# Altium integrated library TI Data Converters Analog to Digital Converter.IntLib: 2197 symbols (part 12 of 168)
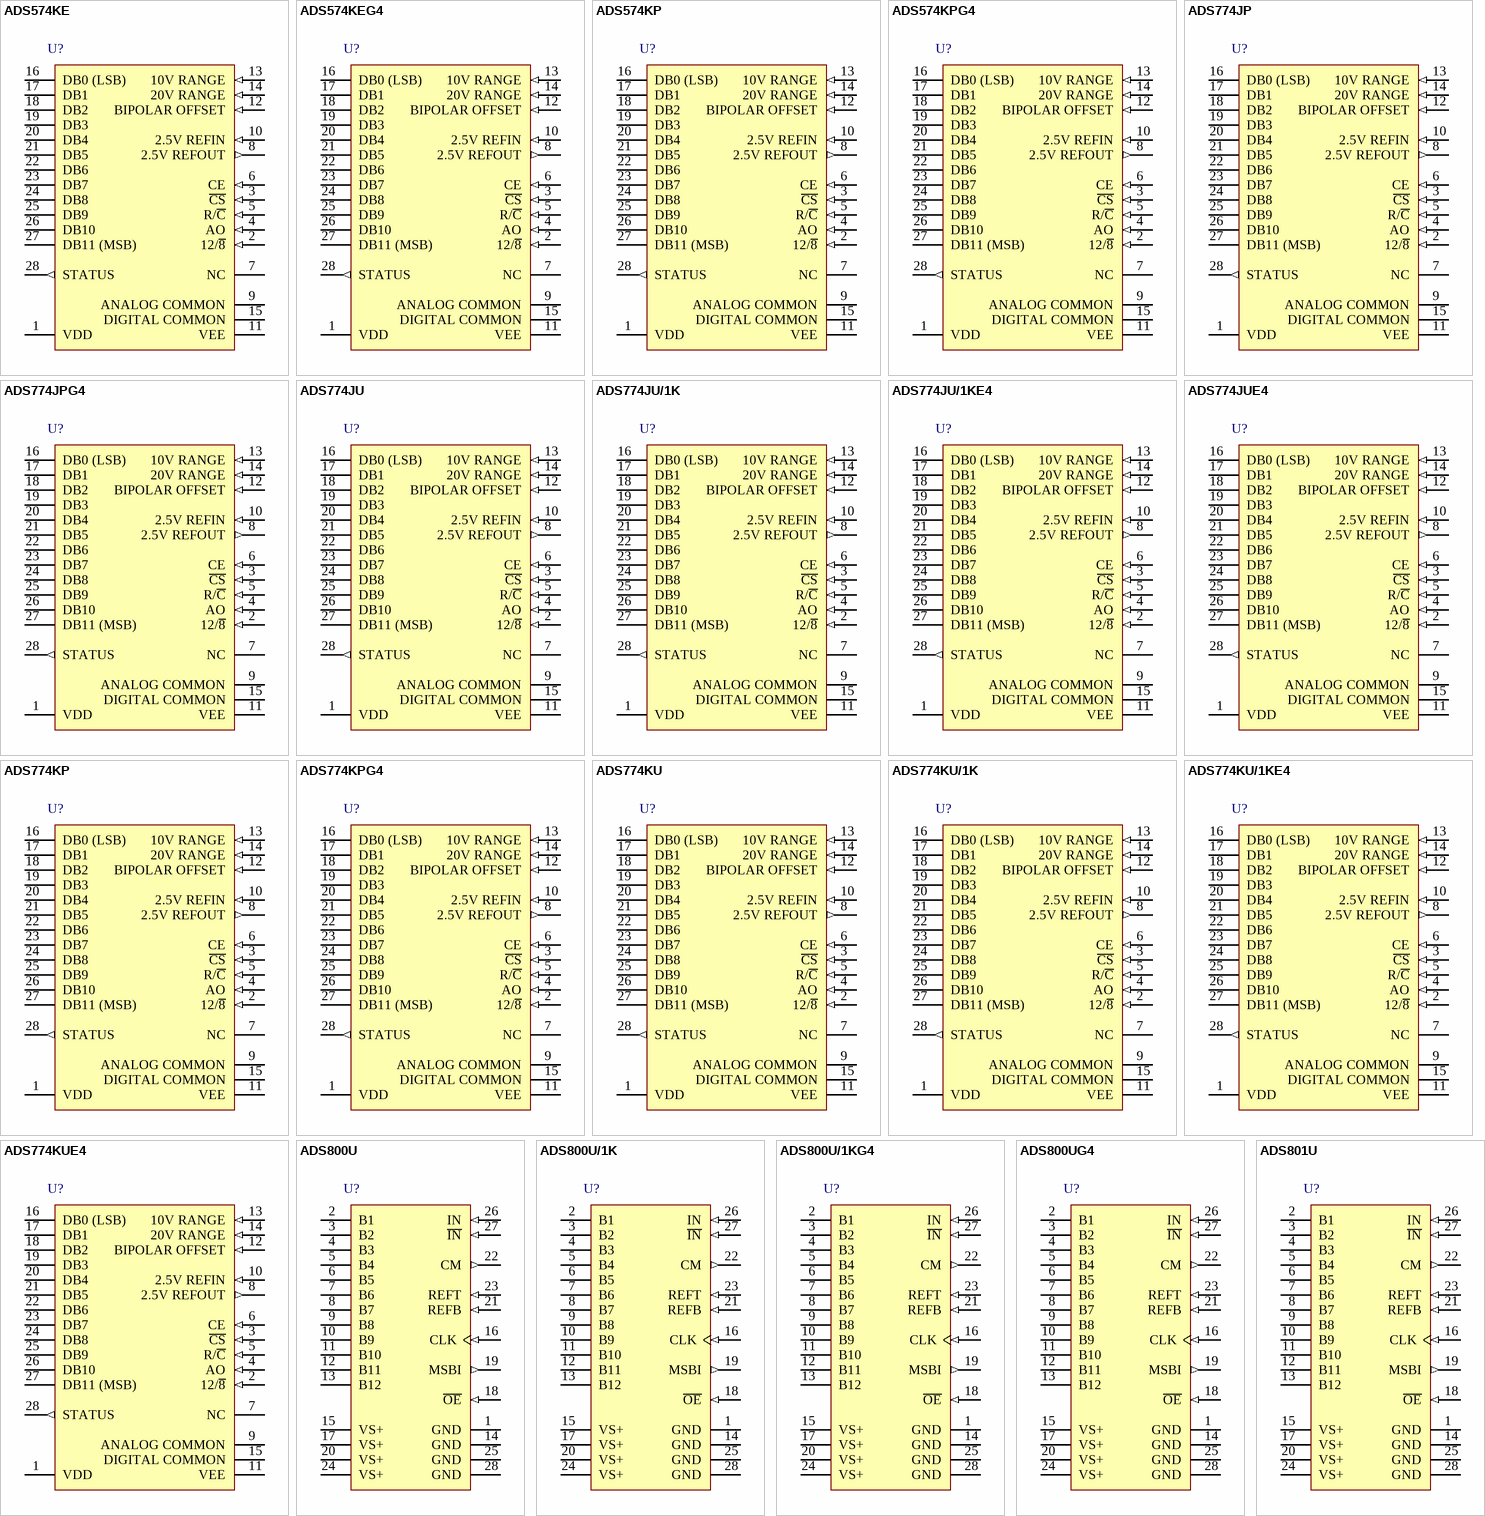
[diagram p137: symbols ADS574KE to ADS801U]

## ADS800U/1KG4
designator U?
12-Bit, 40 MSPS ADC Single-Ended / Differential Input, Internal Reference, -40 to 85 degC, 28-pin SOIC (DW28), Green (RoHS & no Sb/Br); Manufacturer: Texas Instruments; PartNumber: ADS800U/1KG4; # Input Channels: 1; Analog Voltage AV/DD(Max)(V): 5.25; Analog Voltage AV/DD(Min)(V): 4.75; Architecture: Pipeline; ENOB(Bits): 10; Interface: Parallel CMOS; Resolution(Bits): 12; Sample Rate (max)(SPS): 40M; SFDR(dB): 72; SINAD(dB): 63; SNR(dB): 64; SubFamily: High Speed ADC (>10MSPS); DatasheetVersion: SBAS035B; PackageVersion: 4040000-6/G, 01/2011; PackageReference: DW28; PackageDescription: 28-Pin Plastic Small Outline, Body 17.90 x 7.50 mm, Pitch 1.27 mm; Supplier 1: Digi-Key; Supplier Part Number 1: ADS1100A5IDBVTG4-ND; Supplier 2: Mouser; Supplier Part Number 2: 595-ADS1100A5IDBVTG4; Digital Supply(Max)(V): 5.25; Digital Supply(Min)(V): 4.75; Eco-Plan: Green (RoHS & no Sb/Br); Mounting Technology: Surface Mount; Code_JEDEC: MS-013; ComponentLink1Description: Manufacturer URL; ComponentLink1URL: http://www.ti.com/; ComponentLink2Description: Datasheet; ComponentLink2URL: http://www.ti.com/general/docs/lit/getliterature.tsp?genericPartNumber=ADS800&fileType=pdf; ComponentLink3Description: Package Specification; ComponentLink3URL: http://www.ti.com/lit/ml/mpds175a/mpds175a.pdf
footprint TI-DW28_N (SOIC, 28-Leads, Body 17.9x7.5mm, Pitch 1.27mm, IPC Medium Density)
footprint TI-DW28_L (SOIC, 28-Leads, Body 17.9x7.5mm, Pitch 1.27mm, IPC High Density)
footprint TI-DW28_M (SOIC, 28-Leads, Body 17.9x7.5mm, Pitch 1.27mm, IPC Low Density)
pins: 1 GND (power) "Ground", 2 B1 (hiz) "Bit 1, Most Significant Bit", 3 B2 (hiz) "Bit 2", 4 B3 (hiz) "Bit 3", 5 B4 (hiz) "Bit 4", 6 B5 (hiz) "Bit 5", 7 B6 (hiz) "Bit 6", 8 B7 (hiz) "Bit 7", 9 B8 (hiz) "Bit 8", 10 B9 (hiz) "Bit 9", 11 B10 (hiz) "Bit 10", 12 B11 (hiz) "Bit 11", 13 B12 (hiz) "Bit 12, Least Significant Bit", 14 GND (power) "Ground", 15 VS+ (power) "+5V Power Supply", 16 CLK (in) "Convert Clock Input, 50% Duty Cycle", 17 VS+ (power) "+5V Power Supply", 18 ~{OE} (in) "HI: High Impedance State. LO or Floating: Normal Operation. Internal pull-down resistors.", 19 MSBI (out) "Most Significant Bit Inversion, HI: MSB inverted for complementary output. LO or Floating: Straight output. Internal pull-down resistors", 20 VS+ (power) "+5V Power Supply", 21 REFB (in) "Bottom Reference Bypass. For external bypassing of internal +1.25V reference", 22 CM (out) "Common-Mode Voltage. It is derived by (REFT + REFB)/2.", 23 REFT (in) "Top Reference Bypass. For external bypassing of internal +3.25V reference", 24 VS+ (power) "+5V Power Supply", 25 GND (power) "Ground", 26 IN (in) "Input", 27 ~{IN} (in) "Complementary Input", 28 GND (power) "Ground"

## ADS800UG4
designator U?
12-Bit, 40 MSPS ADC Single-Ended / Differential Input, Internal Reference, -40 to 85 degC, 28-pin SOIC (DW28), Green (RoHS & no Sb/Br); Manufacturer: Texas Instruments; PartNumber: ADS800UG4; # Input Channels: 1; Analog Voltage AV/DD(Max)(V): 5.25; Analog Voltage AV/DD(Min)(V): 4.75; Architecture: Pipeline; ENOB(Bits): 10; Interface: Parallel CMOS; Resolution(Bits): 12; Sample Rate (max)(SPS): 40M; SFDR(dB): 72; SINAD(dB): 63; SNR(dB): 64; SubFamily: High Speed ADC (>10MSPS); DatasheetVersion: SBAS035B; PackageVersion: 4040000-6/G, 01/2011; PackageReference: DW28; PackageDescription: 28-Pin Plastic Small Outline, Body 17.90 x 7.50 mm, Pitch 1.27 mm; Supplier 1: Digi-Key; Supplier Part Number 1: ADS1100A6IDBVR-ND; Supplier 2: Mouser; Supplier Part Number 2: 595-ADS1100A6IDBVR; Digital Supply(Max)(V): 5.25; Digital Supply(Min)(V): 4.75; Eco-Plan: Green (RoHS & no Sb/Br); Mounting Technology: Surface Mount; Code_JEDEC: MS-013; ComponentLink1Description: Manufacturer URL; ComponentLink1URL: http://www.ti.com/; ComponentLink2Description: Datasheet; ComponentLink2URL: http://www.ti.com/general/docs/lit/getliterature.tsp?genericPartNumber=ADS800&fileType=pdf; ComponentLink3Description: Package Specification; ComponentLink3URL: http://www.ti.com/lit/ml/mpds175a/mpds175a.pdf
footprint TI-DW28_N (SOIC, 28-Leads, Body 17.9x7.5mm, Pitch 1.27mm, IPC Medium Density)
footprint TI-DW28_L (SOIC, 28-Leads, Body 17.9x7.5mm, Pitch 1.27mm, IPC High Density)
footprint TI-DW28_M (SOIC, 28-Leads, Body 17.9x7.5mm, Pitch 1.27mm, IPC Low Density)
pins: 1 GND (power) "Ground", 2 B1 (hiz) "Bit 1, Most Significant Bit", 3 B2 (hiz) "Bit 2", 4 B3 (hiz) "Bit 3", 5 B4 (hiz) "Bit 4", 6 B5 (hiz) "Bit 5", 7 B6 (hiz) "Bit 6", 8 B7 (hiz) "Bit 7", 9 B8 (hiz) "Bit 8", 10 B9 (hiz) "Bit 9", 11 B10 (hiz) "Bit 10", 12 B11 (hiz) "Bit 11", 13 B12 (hiz) "Bit 12, Least Significant Bit", 14 GND (power) "Ground", 15 VS+ (power) "+5V Power Supply", 16 CLK (in) "Convert Clock Input, 50% Duty Cycle", 17 VS+ (power) "+5V Power Supply", 18 ~{OE} (in) "HI: High Impedance State. LO or Floating: Normal Operation. Internal pull-down resistors.", 19 MSBI (out) "Most Significant Bit Inversion, HI: MSB inverted for complementary output. LO or Floating: Straight output. Internal pull-down resistors", 20 VS+ (power) "+5V Power Supply", 21 REFB (in) "Bottom Reference Bypass. For external bypassing of internal +1.25V reference", 22 CM (out) "Common-Mode Voltage. It is derived by (REFT + REFB)/2.", 23 REFT (in) "Top Reference Bypass. For external bypassing of internal +3.25V reference", 24 VS+ (power) "+5V Power Supply", 25 GND (power) "Ground", 26 IN (in) "Input", 27 ~{IN} (in) "Complementary Input", 28 GND (power) "Ground"

## ADS801U
designator U?
12-Bit, 25 MSPS ADC Single-Ended / Differential Input, Internal Reference, -40 to 85 degC, 28-pin SOIC (DW28), Green (RoHS & no Sb/Br); Manufacturer: Texas Instruments; PartNumber: ADS801U; # Input Channels: 1; Analog Voltage AV/DD(Max)(V): 5.25; Analog Voltage AV/DD(Min)(V): 4.75; Architecture: Pipeline; Interface: Parallel CMOS; Resolution(Bits): 12; Sample Rate (max)(SPS): 25M; SFDR(dB): 77; SINAD(dB): 66; SubFamily: High Speed ADC (>10MSPS); DatasheetVersion: SBAS036B; PackageVersion: 4040000-6/G, 01/2011; PackageReference: DW28; PackageDescription: 28-Pin Plastic Small Outline, Body 17.90 x 7.50 mm, Pitch 1.27 mm; Supplier 1: Digi-Key; Supplier Part Number 1: ADS1100A6IDBVRG4-ND; Supplier 2: Mouser; Supplier Part Number 2: 595-ADS1100A6IDBVRG4; Digital Supply(Max)(V): 5.25; Digital Supply(Min)(V): 4.75; Eco-Plan: Green (RoHS & no Sb/Br); SNR(dB): 66; Mounting Technology: Surface Mount; Code_JEDEC: MS-013; ComponentLink1Description: Manufacturer URL; ComponentLink1URL: http://www.ti.com/; ComponentLink2Description: Datasheet; ComponentLink2URL: http://www.ti.com/general/docs/lit/getliterature.tsp?genericPartNumber=ADS801&fileType=pdf; ComponentLink3Description: Package Specification; ComponentLink3URL: http://www.ti.com/lit/ml/mpds175a/mpds175a.pdf
footprint TI-DW28_N (SOIC, 28-Leads, Body 17.9x7.5mm, Pitch 1.27mm, IPC Medium Density)
footprint TI-DW28_L (SOIC, 28-Leads, Body 17.9x7.5mm, Pitch 1.27mm, IPC High Density)
footprint TI-DW28_M (SOIC, 28-Leads, Body 17.9x7.5mm, Pitch 1.27mm, IPC Low Density)
pins: 1 GND (power) "Ground", 2 B1 (hiz) "Bit 1, Most Significant Bit (MSB)", 3 B2 (hiz) "Bit 2", 4 B3 (hiz) "Bit 3", 5 B4 (hiz) "Bit 4", 6 B5 (hiz) "Bit 5", 7 B6 (hiz) "Bit 6", 8 B7 (hiz) "Bit 7", 9 B8 (hiz) "Bit 8", 10 B9 (hiz) "Bit 9", 11 B10 (hiz) "Bit 10", 12 B11 (hiz) "Bit 11", 13 B12 (hiz) "Bit 12, Least Significant Bit (LSB)", 14 GND (power) "Ground", 15 VS+ (power) "+5V Power Supply", 16 CLK (in) "Convert Clock Input, 50% Duty Cycle", 17 VS+ (power) "+5V Power Supply", 18 ~{OE} (in) "HI: High Impedance State. LO or Floating: Normal Operation. Internal pull-down resistors.", 19 MSBI (out) "Most Significant Bit Inversion, HI: MSB inverted for complementary output. LO or Floating: Straight output. Internal pull-down resistors", 20 VS+ (power) "+5V Power Supply", 21 REFB (in) "Bottom Reference Bypass. For external bypassing of internal +1.25V reference", 22 CM (out) "Common-Mode Voltage. It is derived by (REFT + REFB)/2.", 23 REFT (in) "Top Reference Bypass. For external bypassing of internal +3.25V reference", 24 VS+ (power) "+5V Power Supply", 25 GND (power) "Ground", 26 IN (in) "Input", 27 ~{IN} (in) "Complementary Input", 28 GND (power) "Ground"

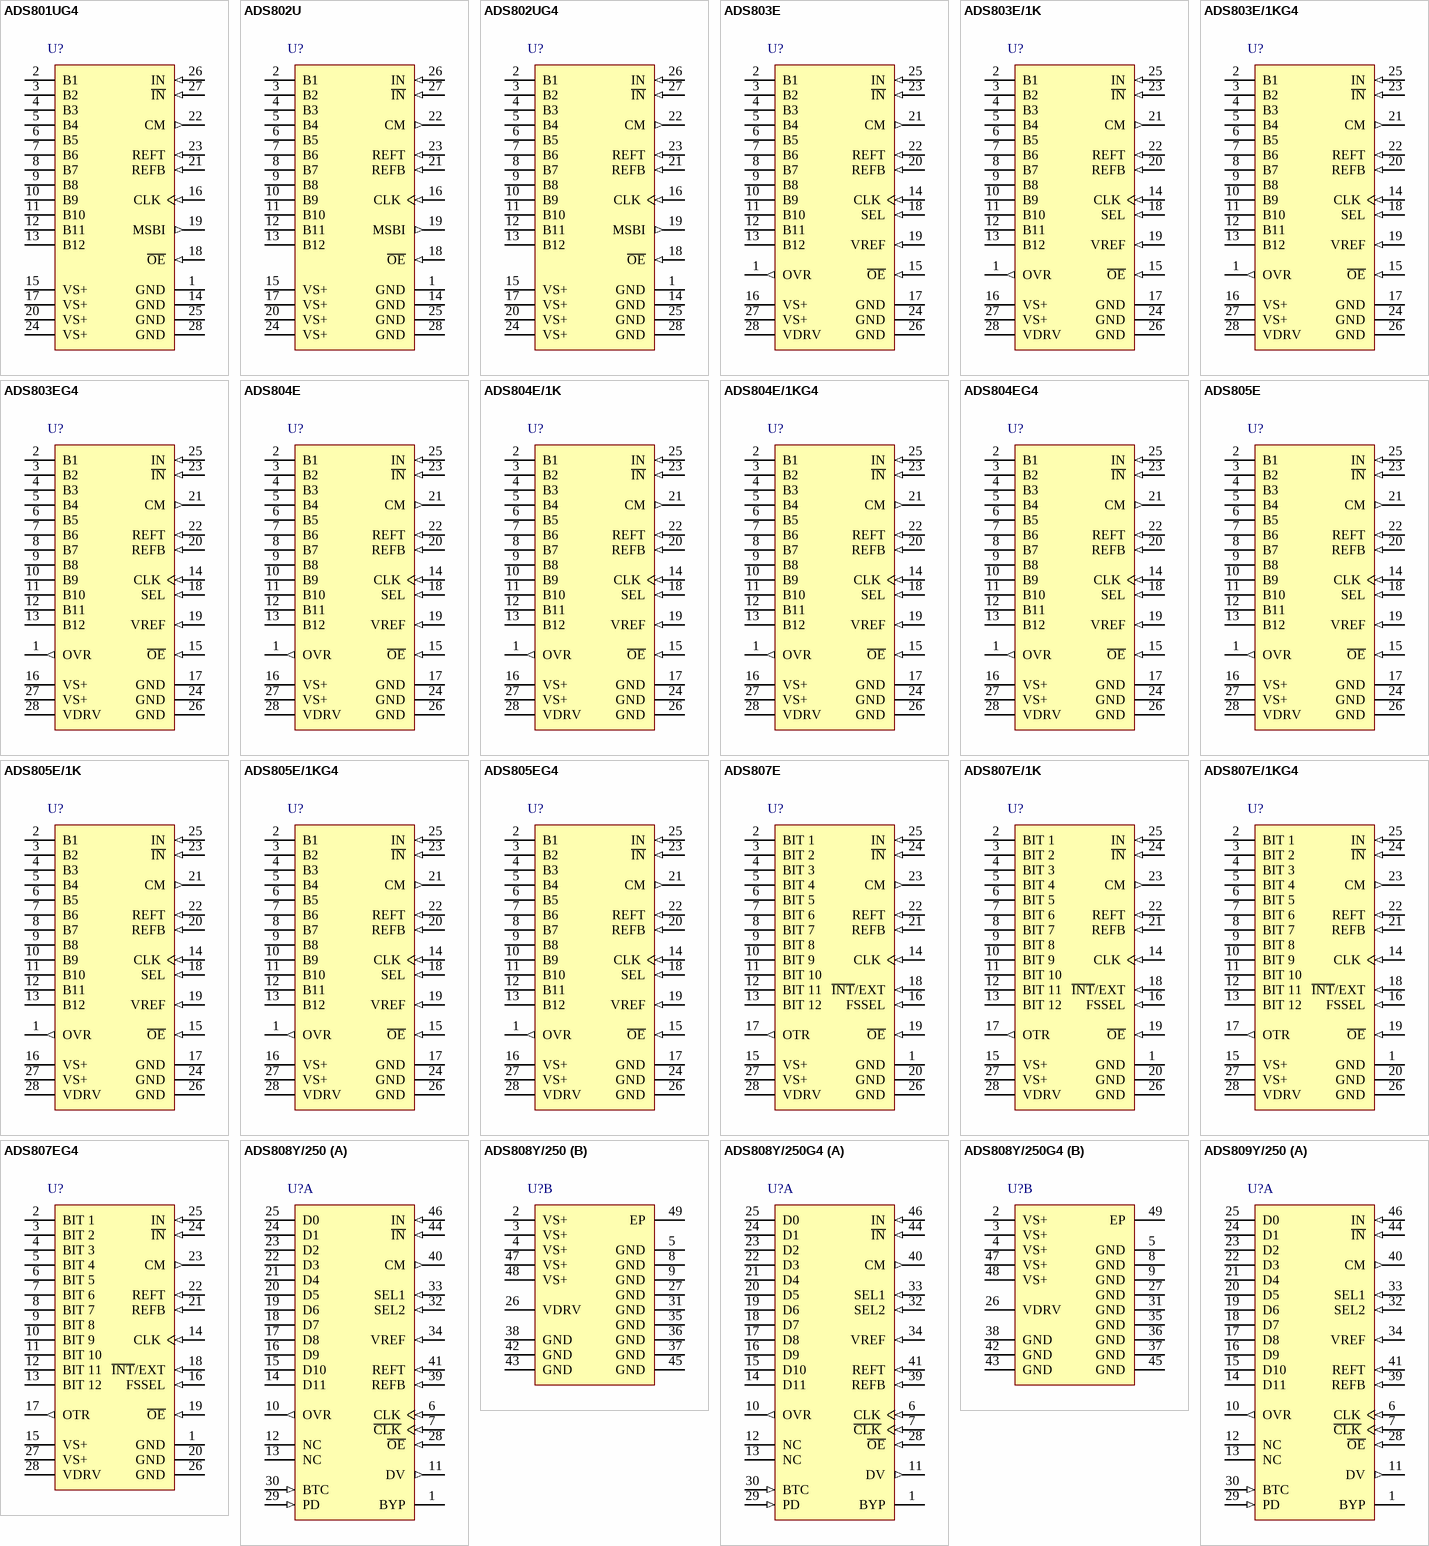
[diagram p8: symbols ADS801UG4 to ADS809Y/250]

## ADS801UG4
designator U?
12-Bit, 25 MSPS ADC Single-Ended / Differential Input, Internal Reference, -40 to 85 degC, 28-pin SOIC (DW28), Green (RoHS & no Sb/Br); Manufacturer: Texas Instruments; PartNumber: ADS801UG4; # Input Channels: 1; Analog Voltage AV/DD(Max)(V): 5.25; Analog Voltage AV/DD(Min)(V): 4.75; Architecture: Pipeline; Interface: Parallel CMOS; Resolution(Bits): 12; Sample Rate (max)(SPS): 25M; SFDR(dB): 77; SINAD(dB): 66; SubFamily: High Speed ADC (>10MSPS); DatasheetVersion: SBAS036B; PackageVersion: 4040000-6/G, 01/2011; PackageReference: DW28; PackageDescription: 28-Pin Plastic Small Outline, Body 17.90 x 7.50 mm, Pitch 1.27 mm; Supplier 1: Digi-Key; Supplier Part Number 1: 296-14303-2-ND; Supplier 2: Digi-Key; Supplier Part Number 2: 296-14303-1-ND; Supplier 3: Digi-Key; Supplier Part Number 3: 296-14303-6-ND; Supplier 4: Newark; Supplier Part Number 4: 20H0720; Supplier 5: Mouser; Supplier Part Number 5: 595-ADS1100A6IDBVT; Digital Supply(Max)(V): 5.25; Digital Supply(Min)(V): 4.75; Eco-Plan: Green (RoHS & no Sb/Br); SNR(dB): 66; Mounting Technology: Surface Mount; Code_JEDEC: MS-013; ComponentLink1Description: Manufacturer URL; ComponentLink1URL: http://www.ti.com/; ComponentLink2Description: Datasheet; ComponentLink2URL: http://www.ti.com/general/docs/lit/getliterature.tsp?genericPartNumber=ADS801&fileType=pdf; ComponentLink3Description: Package Specification; ComponentLink3URL: http://www.ti.com/lit/ml/mpds175a/mpds175a.pdf
footprint TI-DW28_N (SOIC, 28-Leads, Body 17.9x7.5mm, Pitch 1.27mm, IPC Medium Density)
footprint TI-DW28_L (SOIC, 28-Leads, Body 17.9x7.5mm, Pitch 1.27mm, IPC High Density)
footprint TI-DW28_M (SOIC, 28-Leads, Body 17.9x7.5mm, Pitch 1.27mm, IPC Low Density)
pins: 1 GND (power) "Ground", 2 B1 (hiz) "Bit 1, Most Significant Bit (MSB)", 3 B2 (hiz) "Bit 2", 4 B3 (hiz) "Bit 3", 5 B4 (hiz) "Bit 4", 6 B5 (hiz) "Bit 5", 7 B6 (hiz) "Bit 6", 8 B7 (hiz) "Bit 7", 9 B8 (hiz) "Bit 8", 10 B9 (hiz) "Bit 9", 11 B10 (hiz) "Bit 10", 12 B11 (hiz) "Bit 11", 13 B12 (hiz) "Bit 12, Least Significant Bit (LSB)", 14 GND (power) "Ground", 15 VS+ (power) "+5V Power Supply", 16 CLK (in) "Convert Clock Input, 50% Duty Cycle", 17 VS+ (power) "+5V Power Supply", 18 ~{OE} (in) "HI: High Impedance State. LO or Floating: Normal Operation. Internal pull-down resistors.", 19 MSBI (out) "Most Significant Bit Inversion, HI: MSB inverted for complementary output. LO or Floating: Straight output. Internal pull-down resistors", 20 VS+ (power) "+5V Power Supply", 21 REFB (in) "Bottom Reference Bypass. For external bypassing of internal +1.25V reference", 22 CM (out) "Common-Mode Voltage. It is derived by (REFT + REFB)/2.", 23 REFT (in) "Top Reference Bypass. For external bypassing of internal +3.25V reference", 24 VS+ (power) "+5V Power Supply", 25 GND (power) "Ground", 26 IN (in) "Input", 27 ~{IN} (in) "Complementary Input", 28 GND (power) "Ground"

## ADS802U
designator U?
12-Bit, 10 MSPS ADC Single-Ended / Differential Input, Internal Reference, -40 to 85 degC, 28-pin SOIC (DW28), Green (RoHS & no Sb/Br); Manufacturer: Texas Instruments; PartNumber: ADS802U; # Input Channels: 1; Analog Voltage AV/DD(Max)(V): 5.25; Analog Voltage AV/DD(Min)(V): 4.75; Architecture: Pipeline; INL(Max)(+/-LSB): 2.75; Interface: Parallel CMOS; Resolution(Bits): 12; Sample Rate (max)(SPS): 10M; SFDR(dB): 77; SINAD(dB): 66; SNR(dB): 67; SubFamily: Precision ADC (<=10MSPS); DatasheetVersion: SBAS039B; PackageVersion: 4040000-6/G, 01/2011; PackageReference: DW28; PackageDescription: 28-Pin Plastic Small Outline, Body 17.90 x 7.50 mm, Pitch 1.27 mm; Supplier 1: Digi-Key; Supplier Part Number 1: ADS1100A6IDBVTG4-ND; Supplier 2: Mouser; Supplier Part Number 2: 595-ADS1100A6IDBVTG4; Digital Supply(Max)(V): 5.25; Digital Supply(Min)(V): 4.75; Eco-Plan: Green (RoHS & no Sb/Br); Mounting Technology: Surface Mount; Code_JEDEC: MS-013; ComponentLink1Description: Manufacturer URL; ComponentLink1URL: http://www.ti.com/; ComponentLink2Description: Datasheet; ComponentLink2URL: http://www.ti.com/general/docs/lit/getliterature.tsp?genericPartNumber=ADS802&fileType=pdf; ComponentLink3Description: Package Specification; ComponentLink3URL: http://www.ti.com/lit/ml/mpds175a/mpds175a.pdf
footprint TI-DW28_N (SOIC, 28-Leads, Body 17.9x7.5mm, Pitch 1.27mm, IPC Medium Density)
footprint TI-DW28_L (SOIC, 28-Leads, Body 17.9x7.5mm, Pitch 1.27mm, IPC High Density)
footprint TI-DW28_M (SOIC, 28-Leads, Body 17.9x7.5mm, Pitch 1.27mm, IPC Low Density)
pins: 1 GND (power) "Ground", 2 B1 (hiz) "Bit 1, Most Significant Bit", 3 B2 (hiz) "Bit 2", 4 B3 (hiz) "Bit 3", 5 B4 (hiz) "Bit 4", 6 B5 (hiz) "Bit 5", 7 B6 (hiz) "Bit 6", 8 B7 (hiz) "Bit 7", 9 B8 (hiz) "Bit 8", 10 B9 (hiz) "Bit 9", 11 B10 (hiz) "Bit 10", 12 B11 (hiz) "Bit 11", 13 B12 (hiz) "Bit 12, Least Significant Bit", 14 GND (power) "Ground", 15 VS+ (power) "+5V Power Supply", 16 CLK (in) "Convert Clock Input, 50% Duty Cycle", 17 VS+ (power) "+5V Power Supply", 18 ~{OE} (in) "HI: High Impedance State. LO or Floating: Normal Operation. Internal pull-down resistors.", 19 MSBI (out) "Most Significant Bit Inversion, HI: MSB inverted for complementary output. LO or Floating: Straight output. Internal pull-down resistors", 20 VS+ (power) "+5V Power Supply", 21 REFB (in) "Bottom Reference Bypass. For external bypassing of internal +1.25V reference", 22 CM (out) "Common-Mode Voltage. It is derived by (REFT + REFB)/2.", 23 REFT (in) "Top Reference Bypass. For external bypassing of internal +3.25V reference", 24 VS+ (power) "+5V Power Supply", 25 GND (power) "Ground", 26 IN (in) "Input", 27 ~{IN} (in) "Complementary Input", 28 GND (power) "Ground"

## ADS802UG4
designator U?
12-Bit, 10 MSPS ADC Single-Ended / Differential Input, Internal Reference, -40 to 85 degC, 28-pin SOIC (DW28), Green (RoHS & no Sb/Br); Manufacturer: Texas Instruments; PartNumber: ADS802UG4; # Input Channels: 1; Analog Voltage AV/DD(Max)(V): 5.25; Analog Voltage AV/DD(Min)(V): 4.75; Architecture: Pipeline; INL(Max)(+/-LSB): 2.75; Interface: Parallel CMOS; Resolution(Bits): 12; Sample Rate (max)(SPS): 10M; SFDR(dB): 77; SINAD(dB): 66; SNR(dB): 67; SubFamily: Precision ADC (<=10MSPS); DatasheetVersion: SBAS039B; PackageVersion: 4040000-6/G, 01/2011; PackageReference: DW28; PackageDescription: 28-Pin Plastic Small Outline, Body 17.90 x 7.50 mm, Pitch 1.27 mm; Supplier 1: Digi-Key; Supplier Part Number 1: ADS1100A7IDBVR-ND; Supplier 2: Mouser; Supplier Part Number 2: 595-ADS1100A7IDBVR; Digital Supply(Max)(V): 5.25; Digital Supply(Min)(V): 4.75; Eco-Plan: Green (RoHS & no Sb/Br); Mounting Technology: Surface Mount; Code_JEDEC: MS-013; ComponentLink1Description: Manufacturer URL; ComponentLink1URL: http://www.ti.com/; ComponentLink2Description: Datasheet; ComponentLink2URL: http://www.ti.com/general/docs/lit/getliterature.tsp?genericPartNumber=ADS802&fileType=pdf; ComponentLink3Description: Package Specification; ComponentLink3URL: http://www.ti.com/lit/ml/mpds175a/mpds175a.pdf
footprint TI-DW28_N (SOIC, 28-Leads, Body 17.9x7.5mm, Pitch 1.27mm, IPC Medium Density)
footprint TI-DW28_L (SOIC, 28-Leads, Body 17.9x7.5mm, Pitch 1.27mm, IPC High Density)
footprint TI-DW28_M (SOIC, 28-Leads, Body 17.9x7.5mm, Pitch 1.27mm, IPC Low Density)
pins: 1 GND (power) "Ground", 2 B1 (hiz) "Bit 1, Most Significant Bit", 3 B2 (hiz) "Bit 2", 4 B3 (hiz) "Bit 3", 5 B4 (hiz) "Bit 4", 6 B5 (hiz) "Bit 5", 7 B6 (hiz) "Bit 6", 8 B7 (hiz) "Bit 7", 9 B8 (hiz) "Bit 8", 10 B9 (hiz) "Bit 9", 11 B10 (hiz) "Bit 10", 12 B11 (hiz) "Bit 11", 13 B12 (hiz) "Bit 12, Least Significant Bit", 14 GND (power) "Ground", 15 VS+ (power) "+5V Power Supply", 16 CLK (in) "Convert Clock Input, 50% Duty Cycle", 17 VS+ (power) "+5V Power Supply", 18 ~{OE} (in) "HI: High Impedance State. LO or Floating: Normal Operation. Internal pull-down resistors.", 19 MSBI (out) "Most Significant Bit Inversion, HI: MSB inverted for complementary output. LO or Floating: Straight output. Internal pull-down resistors", 20 VS+ (power) "+5V Power Supply", 21 REFB (in) "Bottom Reference Bypass. For external bypassing of internal +1.25V reference", 22 CM (out) "Common-Mode Voltage. It is derived by (REFT + REFB)/2.", 23 REFT (in) "Top Reference Bypass. For external bypassing of internal +3.25V reference", 24 VS+ (power) "+5V Power Supply", 25 GND (power) "Ground", 26 IN (in) "Input", 27 ~{IN} (in) "Complementary Input", 28 GND (power) "Ground"

## ADS803E
designator U?
12-Bit, 5 MSPS ADC Internal / External Reference, Flexible Input between 2 and 5 Vpp, Out of Range Indicator, -40 to 85 degC, 28-pin SOP (DB28), Green (RoHS & no Sb/Br); Manufacturer: Texas Instruments; PartNumber: ADS803E; # Input Channels: 1; Analog Voltage AV/DD(Max)(V): 5.3; Analog Voltage AV/DD(Min)(V): 4.7; Architecture: Pipeline; ENOB(Bits): 11; INL(Max)(+/-LSB): 2; Interface: Parallel CMOS; Resolution(Bits): 12; Sample Rate (max)(SPS): 5M; SFDR(dB): 82; SINAD(dB): 68; SNR(dB): 69; SubFamily: Precision ADC (<=10M); DatasheetVersion: SBAS074B; PackageVersion: 4040065/E, 12/2001; PackageReference: DB28; PackageDescription: 28-Pin Plastic Small Outline, Body 10.2 X 5.3 mm, Pitch 0.65 mm; Supplier 1: Digi-Key; Supplier Part Number 1: ADS1100A7IDBVRG4-ND; Supplier 2: Mouser; Supplier Part Number 2: 595-ADS1100A7IDBVRG4; Digital Supply(Max)(V): 5.3; Digital Supply(Min)(V): 4.7; Eco-Plan: Green (RoHS & no Sb/Br); Mounting Technology: Surface Mount; Code_JEDEC: MO-150; ComponentLink1Description: Manufacturer URL; ComponentLink1URL: http://www.ti.com/; ComponentLink2Description: Datasheet; ComponentLink2URL: http://www.ti.com/general/docs/lit/getliterature.tsp?genericPartNumber=ADS803&fileType=pdf; ComponentLink3Description: Package Specification; ComponentLink3URL: http://www.ti.com/lit/ml/msso002e/msso002e.pdf
footprint TI-DB28_N (SOP, 28-Leads, Body 10.2x5.3mm, Pitch 0.65mm, IPC Medium Density)
footprint TI-DB28_L (SOP, 28-Leads, Body 10.2x5.3mm, Pitch 0.65mm, IPC High Density)
footprint TI-DB28_M (SOP, 28-Leads, Body 10.2x5.3mm, Pitch 0.65mm, IPC Low Density)
pins: 1 OVR (out) "Over-Range Indicator (See Application Section)", 2 B1 (hiz) "Data Bit 1(D11) (MSB)", 3 B2 (hiz) "Data Bit 2 (D10)", 4 B3 (hiz) "Data Bit 3 (D9)", 5 B4 (hiz) "Data Bit 4 (D8)", 6 B5 (hiz) "Data Bit 5 (D7)", 7 B6 (hiz) "Data Bit 6 (D6)", 8 B7 (hiz) "Data Bit 7 (D5)", 9 B8 (hiz) "Data Bit 8 (D4)", 10 B9 (hiz) "Data Bit 9 (D3)", 11 B10 (hiz) "Data Bit 10 (D2)", 12 B11 (hiz) "Data Bit 11 (D1)", 13 B12 (hiz) "Data Bit 12 (D0) (LSB)", 14 CLK (in) "Convert Clock Input", 15 ~{OE} (in) "Output Enable. H = High Impedance State. L = Low or floating, normal operation (Internal pull-down resistor).", 16 VS+ (power) "+5V Supply", 17 GND (power) "Ground", 18 SEL (in) "Input Range Select (See Application Section)", 19 VREF (in) "Reference Voltage Select (I/O)", 20 REFB (in) "Bottom Reference", 21 CM (out) "Common-Mode Voltage", 22 REFT (in) "Top Reference", 23 ~{IN} (in) "Analog Input (-)", 24 GND (power) "Ground", 25 IN (in) "Analog Input (+)", 26 GND (power) "Ground", 27 VS+ (power) "+5V Supply", 28 VDRV (power) "Output Driver Voltage (See Application Section)"

## ADS803E/1K
designator U?
12-Bit, 5 MSPS ADC Internal / External Reference, Flexible Input between 2 and 5 Vpp, Out of Range Indicator, -40 to 85 degC, 28-pin SOP (DB28), Green (RoHS & no Sb/Br); Manufacturer: Texas Instruments; PartNumber: ADS803E/1K; # Input Channels: 1; Analog Voltage AV/DD(Max)(V): 5.3; Analog Voltage AV/DD(Min)(V): 4.7; Architecture: Pipeline; ENOB(Bits): 11; INL(Max)(+/-LSB): 2; Interface: Parallel CMOS; Resolution(Bits): 12; Sample Rate (max)(SPS): 5M; SFDR(dB): 82; SINAD(dB): 68; SNR(dB): 69; SubFamily: Precision ADC (<=10M); DatasheetVersion: SBAS074B; PackageVersion: 4040065/E, 12/2001; PackageReference: DB28; PackageDescription: 28-Pin Plastic Small Outline, Body 10.2 X 5.3 mm, Pitch 0.65 mm; Supplier 1: Digi-Key; Supplier Part Number 1: 296-32008-2-ND; Supplier 2: Digi-Key; Supplier Part Number 2: 296-32008-1-ND; Supplier 3: Digi-Key; Supplier Part Number 3: 296-32008-6-ND; Supplier 4: Newark; Supplier Part Number 4: 32H5347; Supplier 5: Mouser; Supplier Part Number 5: 595-ADS1100A7IDBVT; Digital Supply(Max)(V): 5.3; Digital Supply(Min)(V): 4.7; Eco-Plan: Green (RoHS & no Sb/Br); Mounting Technology: Surface Mount; Code_JEDEC: MO-150; ComponentLink1Description: Manufacturer URL; ComponentLink1URL: http://www.ti.com/; ComponentLink2Description: Datasheet; ComponentLink2URL: http://www.ti.com/general/docs/lit/getliterature.tsp?genericPartNumber=ADS803&fileType=pdf; ComponentLink3Description: Package Specification; ComponentLink3URL: http://www.ti.com/lit/ml/msso002e/msso002e.pdf
footprint TI-DB28_N (SOP, 28-Leads, Body 10.2x5.3mm, Pitch 0.65mm, IPC Medium Density)
footprint TI-DB28_L (SOP, 28-Leads, Body 10.2x5.3mm, Pitch 0.65mm, IPC High Density)
footprint TI-DB28_M (SOP, 28-Leads, Body 10.2x5.3mm, Pitch 0.65mm, IPC Low Density)
pins: 1 OVR (out) "Over-Range Indicator (See Application Section)", 2 B1 (hiz) "Data Bit 1(D11) (MSB)", 3 B2 (hiz) "Data Bit 2 (D10)", 4 B3 (hiz) "Data Bit 3 (D9)", 5 B4 (hiz) "Data Bit 4 (D8)", 6 B5 (hiz) "Data Bit 5 (D7)", 7 B6 (hiz) "Data Bit 6 (D6)", 8 B7 (hiz) "Data Bit 7 (D5)", 9 B8 (hiz) "Data Bit 8 (D4)", 10 B9 (hiz) "Data Bit 9 (D3)", 11 B10 (hiz) "Data Bit 10 (D2)", 12 B11 (hiz) "Data Bit 11 (D1)", 13 B12 (hiz) "Data Bit 12 (D0) (LSB)", 14 CLK (in) "Convert Clock Input", 15 ~{OE} (in) "Output Enable. H = High Impedance State. L = Low or floating, normal operation (Internal pull-down resistor).", 16 VS+ (power) "+5V Supply", 17 GND (power) "Ground", 18 SEL (in) "Input Range Select (See Application Section)", 19 VREF (in) "Reference Voltage Select (I/O)", 20 REFB (in) "Bottom Reference", 21 CM (out) "Common-Mode Voltage", 22 REFT (in) "Top Reference", 23 ~{IN} (in) "Analog Input (-)", 24 GND (power) "Ground", 25 IN (in) "Analog Input (+)", 26 GND (power) "Ground", 27 VS+ (power) "+5V Supply", 28 VDRV (power) "Output Driver Voltage (See Application Section)"

## ADS803E/1KG4
designator U?
12-Bit, 5 MSPS ADC Internal / External Reference, Flexible Input between 2 and 5 Vpp, Out of Range Indicator, -40 to 85 degC, 28-pin SOP (DB28), Green (RoHS & no Sb/Br); Manufacturer: Texas Instruments; PartNumber: ADS803E/1KG4; # Input Channels: 1; Analog Voltage AV/DD(Max)(V): 5.3; Analog Voltage AV/DD(Min)(V): 4.7; Architecture: Pipeline; ENOB(Bits): 11; INL(Max)(+/-LSB): 2; Interface: Parallel CMOS; Resolution(Bits): 12; Sample Rate (max)(SPS): 5M; SFDR(dB): 82; SINAD(dB): 68; SNR(dB): 69; SubFamily: Precision ADC (<=10M); DatasheetVersion: SBAS074B; PackageVersion: 4040065/E, 12/2001; PackageReference: DB28; PackageDescription: 28-Pin Plastic Small Outline, Body 10.2 X 5.3 mm, Pitch 0.65 mm; Supplier 1: Digi-Key; Supplier Part Number 1: ADS1100A7IDBVTG4-ND; Supplier 2: Mouser; Supplier Part Number 2: 595-ADS1100A7IDBVTG4; Digital Supply(Max)(V): 5.3; Digital Supply(Min)(V): 4.7; Eco-Plan: Green (RoHS & no Sb/Br); Mounting Technology: Surface Mount; Code_JEDEC: MO-150; ComponentLink1Description: Manufacturer URL; ComponentLink1URL: http://www.ti.com/; ComponentLink2Description: Datasheet; ComponentLink2URL: http://www.ti.com/general/docs/lit/getliterature.tsp?genericPartNumber=ADS803&fileType=pdf; ComponentLink3Description: Package Specification; ComponentLink3URL: http://www.ti.com/lit/ml/msso002e/msso002e.pdf
footprint TI-DB28_N (SOP, 28-Leads, Body 10.2x5.3mm, Pitch 0.65mm, IPC Medium Density)
footprint TI-DB28_L (SOP, 28-Leads, Body 10.2x5.3mm, Pitch 0.65mm, IPC High Density)
footprint TI-DB28_M (SOP, 28-Leads, Body 10.2x5.3mm, Pitch 0.65mm, IPC Low Density)
pins: 1 OVR (out) "Over-Range Indicator (See Application Section)", 2 B1 (hiz) "Data Bit 1(D11) (MSB)", 3 B2 (hiz) "Data Bit 2 (D10)", 4 B3 (hiz) "Data Bit 3 (D9)", 5 B4 (hiz) "Data Bit 4 (D8)", 6 B5 (hiz) "Data Bit 5 (D7)", 7 B6 (hiz) "Data Bit 6 (D6)", 8 B7 (hiz) "Data Bit 7 (D5)", 9 B8 (hiz) "Data Bit 8 (D4)", 10 B9 (hiz) "Data Bit 9 (D3)", 11 B10 (hiz) "Data Bit 10 (D2)", 12 B11 (hiz) "Data Bit 11 (D1)", 13 B12 (hiz) "Data Bit 12 (D0) (LSB)", 14 CLK (in) "Convert Clock Input", 15 ~{OE} (in) "Output Enable. H = High Impedance State. L = Low or floating, normal operation (Internal pull-down resistor).", 16 VS+ (power) "+5V Supply", 17 GND (power) "Ground", 18 SEL (in) "Input Range Select (See Application Section)", 19 VREF (in) "Reference Voltage Select (I/O)", 20 REFB (in) "Bottom Reference", 21 CM (out) "Common-Mode Voltage", 22 REFT (in) "Top Reference", 23 ~{IN} (in) "Analog Input (-)", 24 GND (power) "Ground", 25 IN (in) "Analog Input (+)", 26 GND (power) "Ground", 27 VS+ (power) "+5V Supply", 28 VDRV (power) "Output Driver Voltage (See Application Section)"

## ADS803EG4
designator U?
12-Bit, 5 MSPS ADC Internal / External Reference, Flexible Input between 2 and 5 Vpp, Out of Range Indicator, -40 to 85 degC, 28-pin SOP (DB28), Green (RoHS & no Sb/Br); Manufacturer: Texas Instruments; PartNumber: ADS803EG4; # Input Channels: 1; Analog Voltage AV/DD(Max)(V): 5.3; Analog Voltage AV/DD(Min)(V): 4.7; Architecture: Pipeline; ENOB(Bits): 11; INL(Max)(+/-LSB): 2; Interface: Parallel CMOS; Resolution(Bits): 12; Sample Rate (max)(SPS): 5M; SFDR(dB): 82; SINAD(dB): 68; SNR(dB): 69; SubFamily: Precision ADC (<=10M); DatasheetVersion: SBAS074B; PackageVersion: 4040065/E, 12/2001; PackageReference: DB28; PackageDescription: 28-Pin Plastic Small Outline, Body 10.2 X 5.3 mm, Pitch 0.65 mm; Supplier 1: Digi-Key; Supplier Part Number 1: ADS8325IBDGKR-ND; Supplier 2: Mouser; Supplier Part Number 2: 595-ADS8325IBDGKR; Digital Supply(Max)(V): 5.3; Digital Supply(Min)(V): 4.7; Eco-Plan: Green (RoHS & no Sb/Br); Mounting Technology: Surface Mount; Code_JEDEC: MO-150; ComponentLink1Description: Manufacturer URL; ComponentLink1URL: http://www.ti.com/; ComponentLink2Description: Datasheet; ComponentLink2URL: http://www.ti.com/general/docs/lit/getliterature.tsp?genericPartNumber=ADS803&fileType=pdf; ComponentLink3Description: Package Specification; ComponentLink3URL: http://www.ti.com/lit/ml/msso002e/msso002e.pdf
footprint TI-DB28_N (SOP, 28-Leads, Body 10.2x5.3mm, Pitch 0.65mm, IPC Medium Density)
footprint TI-DB28_L (SOP, 28-Leads, Body 10.2x5.3mm, Pitch 0.65mm, IPC High Density)
footprint TI-DB28_M (SOP, 28-Leads, Body 10.2x5.3mm, Pitch 0.65mm, IPC Low Density)
pins: 1 OVR (out) "Over-Range Indicator (See Application Section)", 2 B1 (hiz) "Data Bit 1(D11) (MSB)", 3 B2 (hiz) "Data Bit 2 (D10)", 4 B3 (hiz) "Data Bit 3 (D9)", 5 B4 (hiz) "Data Bit 4 (D8)", 6 B5 (hiz) "Data Bit 5 (D7)", 7 B6 (hiz) "Data Bit 6 (D6)", 8 B7 (hiz) "Data Bit 7 (D5)", 9 B8 (hiz) "Data Bit 8 (D4)", 10 B9 (hiz) "Data Bit 9 (D3)", 11 B10 (hiz) "Data Bit 10 (D2)", 12 B11 (hiz) "Data Bit 11 (D1)", 13 B12 (hiz) "Data Bit 12 (D0) (LSB)", 14 CLK (in) "Convert Clock Input", 15 ~{OE} (in) "Output Enable. H = High Impedance State. L = Low or floating, normal operation (Internal pull-down resistor).", 16 VS+ (power) "+5V Supply", 17 GND (power) "Ground", 18 SEL (in) "Input Range Select (See Application Section)", 19 VREF (in) "Reference Voltage Select (I/O)", 20 REFB (in) "Bottom Reference", 21 CM (out) "Common-Mode Voltage", 22 REFT (in) "Top Reference", 23 ~{IN} (in) "Analog Input (-)", 24 GND (power) "Ground", 25 IN (in) "Analog Input (+)", 26 GND (power) "Ground", 27 VS+ (power) "+5V Supply", 28 VDRV (power) "Output Driver Voltage (See Application Section)"

## ADS804E
designator U?
12-Bit, 10 MSPS ADC Internal / External Reference, Flexible Input between 2 and 5 Vpp, Out of Range Indicator, -40 to 85 degC, 28-pin SOP (DB28), Green (RoHS & no Sb/Br); Manufacturer: Texas Instruments; PartNumber: ADS804E; # Input Channels: 1; Analog Voltage AV/DD(Max)(V): 5.3; Analog Voltage AV/DD(Min)(V): 4.7; Architecture: Pipeline; INL(Max)(+/-LSB): 2; Interface: Parallel CMOS; Resolution(Bits): 12; Sample Rate (max)(SPS): 10M; SFDR(dB): 80; SINAD(dB): 68; SNR(dB): 69; SubFamily: Precision ADC (<=10M); DatasheetVersion: SBAS068B; PackageVersion: 4040065/E, 12/2001; PackageReference: DB28; PackageDescription: 28-Pin Plastic Small Outline, Body 10.2 X 5.3 mm, Pitch 0.65 mm; Supplier 1: Digi-Key; Supplier Part Number 1: ADS8325IBDGKRG4-ND; Supplier 2: Mouser; Supplier Part Number 2: 595-ADS8325IBDGKRG4; Digital Supply(Max)(V): 5.3; Digital Supply(Min)(V): 4.7; Eco-Plan: Green (RoHS & no Sb/Br); Mounting Technology: Surface Mount; Code_JEDEC: MO-150; ComponentLink1Description: Manufacturer URL; ComponentLink1URL: http://www.ti.com/; ComponentLink2Description: Datasheet; ComponentLink2URL: http://www.ti.com/general/docs/lit/getliterature.tsp?genericPartNumber=ADS804&fileType=pdf; ComponentLink3Description: Package Specification; ComponentLink3URL: http://www.ti.com/lit/ml/msso002e/msso002e.pdf
footprint TI-DB28_N (SOP, 28-Leads, Body 10.2x5.3mm, Pitch 0.65mm, IPC Medium Density)
footprint TI-DB28_L (SOP, 28-Leads, Body 10.2x5.3mm, Pitch 0.65mm, IPC High Density)
footprint TI-DB28_M (SOP, 28-Leads, Body 10.2x5.3mm, Pitch 0.65mm, IPC Low Density)
pins: 1 OVR (out) "Over-Range Indicator (See Application Section)", 2 B1 (hiz) "Data Bit 1(D11) (MSB)", 3 B2 (hiz) "Data Bit 2 (D10)", 4 B3 (hiz) "Data Bit 3 (D9)", 5 B4 (hiz) "Data Bit 4 (D8)", 6 B5 (hiz) "Data Bit 5 (D7)", 7 B6 (hiz) "Data Bit 6 (D6)", 8 B7 (hiz) "Data Bit 7 (D5)", 9 B8 (hiz) "Data Bit 8 (D4)", 10 B9 (hiz) "Data Bit 9 (D3)", 11 B10 (hiz) "Data Bit 10 (D2)", 12 B11 (hiz) "Data Bit 11 (D1)", 13 B12 (hiz) "Data Bit 12 (D0) (LSB)", 14 CLK (in) "Convert Clock Input", 15 ~{OE} (in) "Output Enable. H = High Impedance State. L = Low or floating, normal operation (Internal pull-down resistor).", 16 VS+ (power) "+5V Supply", 17 GND (power) "Ground", 18 SEL (in) "Input Range Select (See Application Section)", 19 VREF (in) "Reference Voltage Select (I/O)", 20 REFB (in) "Bottom Reference", 21 CM (out) "Common-Mode Voltage", 22 REFT (in) "Top Reference", 23 ~{IN} (in) "Analog Input (-)", 24 GND (power) "Ground", 25 IN (in) "Analog Input (+)", 26 GND (power) "Ground", 27 VS+ (power) "+5V Supply", 28 VDRV (power) "Output Driver Voltage (See Application Section)"

## ADS804E/1K
designator U?
12-Bit, 10 MSPS ADC Internal / External Reference, Flexible Input between 2 and 5 Vpp, Out of Range Indicator, -40 to 85 degC, 28-pin SOP (DB28), Green (RoHS & no Sb/Br); Manufacturer: Texas Instruments; PartNumber: ADS804E/1K; # Input Channels: 1; Analog Voltage AV/DD(Max)(V): 5.3; Analog Voltage AV/DD(Min)(V): 4.7; Architecture: Pipeline; INL(Max)(+/-LSB): 2; Interface: Parallel CMOS; Resolution(Bits): 12; Sample Rate (max)(SPS): 10M; SFDR(dB): 80; SINAD(dB): 68; SNR(dB): 69; SubFamily: Precision ADC (<=10M); DatasheetVersion: SBAS068B; PackageVersion: 4040065/E, 12/2001; PackageReference: DB28; PackageDescription: 28-Pin Plastic Small Outline, Body 10.2 X 5.3 mm, Pitch 0.65 mm; Supplier 1: Digi-Key; Supplier Part Number 1: ADS8325IBDGKTTR-ND; Supplier 2: Digi-Key; Supplier Part Number 2: ADS8325IBDGKTCT-ND; Supplier 3: Digi-Key; Supplier Part Number 3: ADS8325IBDGKTDKR-ND; Supplier 4: Farnell; Supplier Part Number 4: 1470342; Supplier 5: Newark; Supplier Part Number 5: 80K5561; Supplier 6: Mouser; Supplier Part Number 6: 595-ADS8325IBDGKT; Digital Supply(Max)(V): 5.3; Digital Supply(Min)(V): 4.7; Eco-Plan: Green (RoHS & no Sb/Br); Mounting Technology: Surface Mount; Code_JEDEC: MO-150; ComponentLink1Description: Manufacturer URL; ComponentLink1URL: http://www.ti.com/; ComponentLink2Description: Datasheet; ComponentLink2URL: http://www.ti.com/general/docs/lit/getliterature.tsp?genericPartNumber=ADS804&fileType=pdf; ComponentLink3Description: Package Specification; ComponentLink3URL: http://www.ti.com/lit/ml/msso002e/msso002e.pdf
footprint TI-DB28_N (SOP, 28-Leads, Body 10.2x5.3mm, Pitch 0.65mm, IPC Medium Density)
footprint TI-DB28_L (SOP, 28-Leads, Body 10.2x5.3mm, Pitch 0.65mm, IPC High Density)
footprint TI-DB28_M (SOP, 28-Leads, Body 10.2x5.3mm, Pitch 0.65mm, IPC Low Density)
pins: 1 OVR (out) "Over-Range Indicator (See Application Section)", 2 B1 (hiz) "Data Bit 1(D11) (MSB)", 3 B2 (hiz) "Data Bit 2 (D10)", 4 B3 (hiz) "Data Bit 3 (D9)", 5 B4 (hiz) "Data Bit 4 (D8)", 6 B5 (hiz) "Data Bit 5 (D7)", 7 B6 (hiz) "Data Bit 6 (D6)", 8 B7 (hiz) "Data Bit 7 (D5)", 9 B8 (hiz) "Data Bit 8 (D4)", 10 B9 (hiz) "Data Bit 9 (D3)", 11 B10 (hiz) "Data Bit 10 (D2)", 12 B11 (hiz) "Data Bit 11 (D1)", 13 B12 (hiz) "Data Bit 12 (D0) (LSB)", 14 CLK (in) "Convert Clock Input", 15 ~{OE} (in) "Output Enable. H = High Impedance State. L = Low or floating, normal operation (Internal pull-down resistor).", 16 VS+ (power) "+5V Supply", 17 GND (power) "Ground", 18 SEL (in) "Input Range Select (See Application Section)", 19 VREF (in) "Reference Voltage Select (I/O)", 20 REFB (in) "Bottom Reference", 21 CM (out) "Common-Mode Voltage", 22 REFT (in) "Top Reference", 23 ~{IN} (in) "Analog Input (-)", 24 GND (power) "Ground", 25 IN (in) "Analog Input (+)", 26 GND (power) "Ground", 27 VS+ (power) "+5V Supply", 28 VDRV (power) "Output Driver Voltage (See Application Section)"

## ADS804E/1KG4
designator U?
12-Bit, 10 MSPS ADC Internal / External Reference, Flexible Input between 2 and 5 Vpp, Out of Range Indicator, -40 to 85 degC, 28-pin SOP (DB28), Green (RoHS & no Sb/Br); Manufacturer: Texas Instruments; PartNumber: ADS804E/1KG4; # Input Channels: 1; Analog Voltage AV/DD(Max)(V): 5.3; Analog Voltage AV/DD(Min)(V): 4.7; Architecture: Pipeline; INL(Max)(+/-LSB): 2; Interface: Parallel CMOS; Resolution(Bits): 12; Sample Rate (max)(SPS): 10M; SFDR(dB): 80; SINAD(dB): 68; SNR(dB): 69; SubFamily: Precision ADC (<=10M); DatasheetVersion: SBAS068B; PackageVersion: 4040065/E, 12/2001; PackageReference: DB28; PackageDescription: 28-Pin Plastic Small Outline, Body 10.2 X 5.3 mm, Pitch 0.65 mm; Supplier 1: Digi-Key; Supplier Part Number 1: ADS8325IBDGKTG4-ND; Supplier 2: Newark; Supplier Part Number 2: 85K0096; Supplier 3: Mouser; Supplier Part Number 3: 595-ADS8325IBDGKTG4; Digital Supply(Max)(V): 5.3; Digital Supply(Min)(V): 4.7; Eco-Plan: Green (RoHS & no Sb/Br); Mounting Technology: Surface Mount; Code_JEDEC: MO-150; ComponentLink1Description: Manufacturer URL; ComponentLink1URL: http://www.ti.com/; ComponentLink2Description: Datasheet; ComponentLink2URL: http://www.ti.com/general/docs/lit/getliterature.tsp?genericPartNumber=ADS804&fileType=pdf; ComponentLink3Description: Package Specification; ComponentLink3URL: http://www.ti.com/lit/ml/msso002e/msso002e.pdf
footprint TI-DB28_N (SOP, 28-Leads, Body 10.2x5.3mm, Pitch 0.65mm, IPC Medium Density)
footprint TI-DB28_L (SOP, 28-Leads, Body 10.2x5.3mm, Pitch 0.65mm, IPC High Density)
footprint TI-DB28_M (SOP, 28-Leads, Body 10.2x5.3mm, Pitch 0.65mm, IPC Low Density)
pins: 1 OVR (out) "Over-Range Indicator (See Application Section)", 2 B1 (hiz) "Data Bit 1(D11) (MSB)", 3 B2 (hiz) "Data Bit 2 (D10)", 4 B3 (hiz) "Data Bit 3 (D9)", 5 B4 (hiz) "Data Bit 4 (D8)", 6 B5 (hiz) "Data Bit 5 (D7)", 7 B6 (hiz) "Data Bit 6 (D6)", 8 B7 (hiz) "Data Bit 7 (D5)", 9 B8 (hiz) "Data Bit 8 (D4)", 10 B9 (hiz) "Data Bit 9 (D3)", 11 B10 (hiz) "Data Bit 10 (D2)", 12 B11 (hiz) "Data Bit 11 (D1)", 13 B12 (hiz) "Data Bit 12 (D0) (LSB)", 14 CLK (in) "Convert Clock Input", 15 ~{OE} (in) "Output Enable. H = High Impedance State. L = Low or floating, normal operation (Internal pull-down resistor).", 16 VS+ (power) "+5V Supply", 17 GND (power) "Ground", 18 SEL (in) "Input Range Select (See Application Section)", 19 VREF (in) "Reference Voltage Select (I/O)", 20 REFB (in) "Bottom Reference", 21 CM (out) "Common-Mode Voltage", 22 REFT (in) "Top Reference", 23 ~{IN} (in) "Analog Input (-)", 24 GND (power) "Ground", 25 IN (in) "Analog Input (+)", 26 GND (power) "Ground", 27 VS+ (power) "+5V Supply", 28 VDRV (power) "Output Driver Voltage (See Application Section)"

## ADS804EG4
designator U?
12-Bit, 10 MSPS ADC Internal / External Reference, Flexible Input between 2 and 5 Vpp, Out of Range Indicator, -40 to 85 degC, 28-pin SOP (DB28), Green (RoHS & no Sb/Br); Manufacturer: Texas Instruments; PartNumber: ADS804EG4; # Input Channels: 1; Analog Voltage AV/DD(Max)(V): 5.3; Analog Voltage AV/DD(Min)(V): 4.7; Architecture: Pipeline; INL(Max)(+/-LSB): 2; Interface: Parallel CMOS; Resolution(Bits): 12; Sample Rate (max)(SPS): 10M; SFDR(dB): 80; SINAD(dB): 68; SNR(dB): 69; SubFamily: Precision ADC (<=10M); DatasheetVersion: SBAS068B; PackageVersion: 4040065/E, 12/2001; PackageReference: DB28; PackageDescription: 28-Pin Plastic Small Outline, Body 10.2 X 5.3 mm, Pitch 0.65 mm; Supplier 1: Digi-Key; Supplier Part Number 1: ADS8325IDGKR-ND; Supplier 2: Mouser; Supplier Part Number 2: 595-ADS8325IDGKR; Digital Supply(Max)(V): 5.3; Digital Supply(Min)(V): 4.7; Eco-Plan: Green (RoHS & no Sb/Br); Mounting Technology: Surface Mount; Code_JEDEC: MO-150; ComponentLink1Description: Manufacturer URL; ComponentLink1URL: http://www.ti.com/; ComponentLink2Description: Datasheet; ComponentLink2URL: http://www.ti.com/general/docs/lit/getliterature.tsp?genericPartNumber=ADS804&fileType=pdf; ComponentLink3Description: Package Specification; ComponentLink3URL: http://www.ti.com/lit/ml/msso002e/msso002e.pdf
footprint TI-DB28_N (SOP, 28-Leads, Body 10.2x5.3mm, Pitch 0.65mm, IPC Medium Density)
footprint TI-DB28_L (SOP, 28-Leads, Body 10.2x5.3mm, Pitch 0.65mm, IPC High Density)
footprint TI-DB28_M (SOP, 28-Leads, Body 10.2x5.3mm, Pitch 0.65mm, IPC Low Density)
pins: 1 OVR (out) "Over-Range Indicator (See Application Section)", 2 B1 (hiz) "Data Bit 1(D11) (MSB)", 3 B2 (hiz) "Data Bit 2 (D10)", 4 B3 (hiz) "Data Bit 3 (D9)", 5 B4 (hiz) "Data Bit 4 (D8)", 6 B5 (hiz) "Data Bit 5 (D7)", 7 B6 (hiz) "Data Bit 6 (D6)", 8 B7 (hiz) "Data Bit 7 (D5)", 9 B8 (hiz) "Data Bit 8 (D4)", 10 B9 (hiz) "Data Bit 9 (D3)", 11 B10 (hiz) "Data Bit 10 (D2)", 12 B11 (hiz) "Data Bit 11 (D1)", 13 B12 (hiz) "Data Bit 12 (D0) (LSB)", 14 CLK (in) "Convert Clock Input", 15 ~{OE} (in) "Output Enable. H = High Impedance State. L = Low or floating, normal operation (Internal pull-down resistor).", 16 VS+ (power) "+5V Supply", 17 GND (power) "Ground", 18 SEL (in) "Input Range Select (See Application Section)", 19 VREF (in) "Reference Voltage Select (I/O)", 20 REFB (in) "Bottom Reference", 21 CM (out) "Common-Mode Voltage", 22 REFT (in) "Top Reference", 23 ~{IN} (in) "Analog Input (-)", 24 GND (power) "Ground", 25 IN (in) "Analog Input (+)", 26 GND (power) "Ground", 27 VS+ (power) "+5V Supply", 28 VDRV (power) "Output Driver Voltage (See Application Section)"

## ADS805E
designator U?
12-Bit, 20 MSPS ADC Internal / External Reference, Flexible Input between 2 and 5 Vpp, Out of Range Indicator, -40 to 85 degC, 28-pin SOP (DB28), Green (RoHS & no Sb/Br); Manufacturer: Texas Instruments; PartNumber: ADS805E; # Input Channels: 1; Analog Voltage AV/DD(Max)(V): 5.25; Analog Voltage AV/DD(Min)(V): 4.75; Architecture: Pipeline; ENOB(Bits): 10.7; INL(Max)(+/-LSB): 2; Interface: Parallel CMOS; Resolution(Bits): 12; Sample Rate (max)(SPS): 20M; SFDR(dB): 74; SINAD(dB): 66; SNR(dB): 68; SubFamily: High Speed ADC (>10M); DatasheetVersion: SBAS073B; PackageVersion: 4040065/E, 12/2001; PackageReference: DB28; PackageDescription: 28-Pin Plastic Small Outline, Body 10.2 X 5.3 mm, Pitch 0.65 mm; Supplier 1: Digi-Key; Supplier Part Number 1: ADS8325IDGKRG4-ND; Supplier 2: Mouser; Supplier Part Number 2: 595-ADS8325IDGKRG4; Digital Supply(Max)(V): 5.25; Digital Supply(Min)(V): 4.75; Eco-Plan: Green (RoHS & no Sb/Br); Mounting Technology: Surface Mount; Code_JEDEC: MO-150; ComponentLink1Description: Manufacturer URL; ComponentLink1URL: http://www.ti.com/; ComponentLink2Description: Datasheet; ComponentLink2URL: http://www.ti.com/general/docs/lit/getliterature.tsp?genericPartNumber=ADS805&fileType=pdf; ComponentLink3Description: Package Specification; ComponentLink3URL: http://www.ti.com/lit/ml/msso002e/msso002e.pdf
footprint TI-DB28_N (SOP, 28-Leads, Body 10.2x5.3mm, Pitch 0.65mm, IPC Medium Density)
footprint TI-DB28_L (SOP, 28-Leads, Body 10.2x5.3mm, Pitch 0.65mm, IPC High Density)
footprint TI-DB28_M (SOP, 28-Leads, Body 10.2x5.3mm, Pitch 0.65mm, IPC Low Density)
pins: 1 OVR (out) "Over-Range Indicator (See Application Section)", 2 B1 (hiz) "Data Bit 1(D11) (MSB)", 3 B2 (hiz) "Data Bit 2 (D10)", 4 B3 (hiz) "Data Bit 3 (D9)", 5 B4 (hiz) "Data Bit 4 (D8)", 6 B5 (hiz) "Data Bit 5 (D7)", 7 B6 (hiz) "Data Bit 6 (D6)", 8 B7 (hiz) "Data Bit 7 (D5)", 9 B8 (hiz) "Data Bit 8 (D4)", 10 B9 (hiz) "Data Bit 9 (D3)", 11 B10 (hiz) "Data Bit 10 (D2)", 12 B11 (hiz) "Data Bit 11 (D1)", 13 B12 (hiz) "Data Bit 12 (D0) (LSB)", 14 CLK (in) "Convert Clock Input", 15 ~{OE} (in) "Output Enable. H = High Impedance State. L = Low or floating, normal operation (Internal pull-down resistor).", 16 VS+ (power) "+5V Supply", 17 GND (power) "Ground", 18 SEL (in) "Input Range Select (See Application Section)", 19 VREF (in) "Reference Voltage Select (I/O)", 20 REFB (in) "Bottom Reference", 21 CM (out) "Common-Mode Voltage", 22 REFT (in) "Top Reference", 23 ~{IN} (in) "Analog Input (-)", 24 GND (power) "Ground", 25 IN (in) "Analog Input (+)", 26 GND (power) "Ground", 27 VS+ (power) "+5V Supply", 28 VDRV (power) "Output Driver Voltage (See Application Section)"

## ADS805E/1K
designator U?
12-Bit, 20 MSPS ADC Internal / External Reference, Flexible Input between 2 and 5 Vpp, Out of Range Indicator, -40 to 85 degC, 28-pin SOP (DB28), Green (RoHS & no Sb/Br); Manufacturer: Texas Instruments; PartNumber: ADS805E/1K; # Input Channels: 1; Analog Voltage AV/DD(Max)(V): 5.25; Analog Voltage AV/DD(Min)(V): 4.75; Architecture: Pipeline; ENOB(Bits): 10.7; INL(Max)(+/-LSB): 2; Interface: Parallel CMOS; Resolution(Bits): 12; Sample Rate (max)(SPS): 20M; SFDR(dB): 74; SINAD(dB): 66; SNR(dB): 68; SubFamily: High Speed ADC (>10M); DatasheetVersion: SBAS073B; PackageVersion: 4040065/E, 12/2001; PackageReference: DB28; PackageDescription: 28-Pin Plastic Small Outline, Body 10.2 X 5.3 mm, Pitch 0.65 mm; Supplier 1: Digi-Key; Supplier Part Number 1: 296-19859-2-ND; Supplier 2: Digi-Key; Supplier Part Number 2: 296-19859-1-ND; Supplier 3: Digi-Key; Supplier Part Number 3: 296-19859-6-ND; Supplier 4: Farnell; Supplier Part Number 4: 1459291; Supplier 5: Mouser; Supplier Part Number 5: 595-ADS8325IDGKT; Digital Supply(Max)(V): 5.25; Digital Supply(Min)(V): 4.75; Eco-Plan: Green (RoHS & no Sb/Br); Mounting Technology: Surface Mount; Code_JEDEC: MO-150; ComponentLink1Description: Manufacturer URL; ComponentLink1URL: http://www.ti.com/; ComponentLink2Description: Datasheet; ComponentLink2URL: http://www.ti.com/general/docs/lit/getliterature.tsp?genericPartNumber=ADS805&fileType=pdf; ComponentLink3Description: Package Specification; ComponentLink3URL: http://www.ti.com/lit/ml/msso002e/msso002e.pdf
footprint TI-DB28_N (SOP, 28-Leads, Body 10.2x5.3mm, Pitch 0.65mm, IPC Medium Density)
footprint TI-DB28_L (SOP, 28-Leads, Body 10.2x5.3mm, Pitch 0.65mm, IPC High Density)
footprint TI-DB28_M (SOP, 28-Leads, Body 10.2x5.3mm, Pitch 0.65mm, IPC Low Density)
pins: 1 OVR (out) "Over-Range Indicator (See Application Section)", 2 B1 (hiz) "Data Bit 1(D11) (MSB)", 3 B2 (hiz) "Data Bit 2 (D10)", 4 B3 (hiz) "Data Bit 3 (D9)", 5 B4 (hiz) "Data Bit 4 (D8)", 6 B5 (hiz) "Data Bit 5 (D7)", 7 B6 (hiz) "Data Bit 6 (D6)", 8 B7 (hiz) "Data Bit 7 (D5)", 9 B8 (hiz) "Data Bit 8 (D4)", 10 B9 (hiz) "Data Bit 9 (D3)", 11 B10 (hiz) "Data Bit 10 (D2)", 12 B11 (hiz) "Data Bit 11 (D1)", 13 B12 (hiz) "Data Bit 12 (D0) (LSB)", 14 CLK (in) "Convert Clock Input", 15 ~{OE} (in) "Output Enable. H = High Impedance State. L = Low or floating, normal operation (Internal pull-down resistor).", 16 VS+ (power) "+5V Supply", 17 GND (power) "Ground", 18 SEL (in) "Input Range Select (See Application Section)", 19 VREF (in) "Reference Voltage Select (I/O)", 20 REFB (in) "Bottom Reference", 21 CM (out) "Common-Mode Voltage", 22 REFT (in) "Top Reference", 23 ~{IN} (in) "Analog Input (-)", 24 GND (power) "Ground", 25 IN (in) "Analog Input (+)", 26 GND (power) "Ground", 27 VS+ (power) "+5V Supply", 28 VDRV (power) "Output Driver Voltage (See Application Section)"

## ADS805E/1KG4
designator U?
12-Bit, 20 MSPS ADC Internal / External Reference, Flexible Input between 2 and 5 Vpp, Out of Range Indicator, -40 to 85 degC, 28-pin SOP (DB28), Green (RoHS & no Sb/Br); Manufacturer: Texas Instruments; PartNumber: ADS805E/1KG4; # Input Channels: 1; Analog Voltage AV/DD(Max)(V): 5.25; Analog Voltage AV/DD(Min)(V): 4.75; Architecture: Pipeline; ENOB(Bits): 10.7; INL(Max)(+/-LSB): 2; Interface: Parallel CMOS; Resolution(Bits): 12; Sample Rate (max)(SPS): 20M; SFDR(dB): 74; SINAD(dB): 66; SNR(dB): 68; SubFamily: High Speed ADC (>10M); DatasheetVersion: SBAS073B; PackageVersion: 4040065/E, 12/2001; PackageReference: DB28; PackageDescription: 28-Pin Plastic Small Outline, Body 10.2 X 5.3 mm, Pitch 0.65 mm; Supplier 1: Digi-Key; Supplier Part Number 1: ADS8325IDGKTG4-ND; Supplier 2: Mouser; Supplier Part Number 2: 595-ADS8325IDGKTG4; Digital Supply(Max)(V): 5.25; Digital Supply(Min)(V): 4.75; Eco-Plan: Green (RoHS & no Sb/Br); Mounting Technology: Surface Mount; Code_JEDEC: MO-150; ComponentLink1Description: Manufacturer URL; ComponentLink1URL: http://www.ti.com/; ComponentLink2Description: Datasheet; ComponentLink2URL: http://www.ti.com/general/docs/lit/getliterature.tsp?genericPartNumber=ADS805&fileType=pdf; ComponentLink3Description: Package Specification; ComponentLink3URL: http://www.ti.com/lit/ml/msso002e/msso002e.pdf
footprint TI-DB28_N (SOP, 28-Leads, Body 10.2x5.3mm, Pitch 0.65mm, IPC Medium Density)
footprint TI-DB28_L (SOP, 28-Leads, Body 10.2x5.3mm, Pitch 0.65mm, IPC High Density)
footprint TI-DB28_M (SOP, 28-Leads, Body 10.2x5.3mm, Pitch 0.65mm, IPC Low Density)
pins: 1 OVR (out) "Over-Range Indicator (See Application Section)", 2 B1 (hiz) "Data Bit 1(D11) (MSB)", 3 B2 (hiz) "Data Bit 2 (D10)", 4 B3 (hiz) "Data Bit 3 (D9)", 5 B4 (hiz) "Data Bit 4 (D8)", 6 B5 (hiz) "Data Bit 5 (D7)", 7 B6 (hiz) "Data Bit 6 (D6)", 8 B7 (hiz) "Data Bit 7 (D5)", 9 B8 (hiz) "Data Bit 8 (D4)", 10 B9 (hiz) "Data Bit 9 (D3)", 11 B10 (hiz) "Data Bit 10 (D2)", 12 B11 (hiz) "Data Bit 11 (D1)", 13 B12 (hiz) "Data Bit 12 (D0) (LSB)", 14 CLK (in) "Convert Clock Input", 15 ~{OE} (in) "Output Enable. H = High Impedance State. L = Low or floating, normal operation (Internal pull-down resistor).", 16 VS+ (power) "+5V Supply", 17 GND (power) "Ground", 18 SEL (in) "Input Range Select (See Application Section)", 19 VREF (in) "Reference Voltage Select (I/O)", 20 REFB (in) "Bottom Reference", 21 CM (out) "Common-Mode Voltage", 22 REFT (in) "Top Reference", 23 ~{IN} (in) "Analog Input (-)", 24 GND (power) "Ground", 25 IN (in) "Analog Input (+)", 26 GND (power) "Ground", 27 VS+ (power) "+5V Supply", 28 VDRV (power) "Output Driver Voltage (See Application Section)"

## ADS805EG4
designator U?
12-Bit, 20 MSPS ADC Internal / External Reference, Flexible Input between 2 and 5 Vpp, Out of Range Indicator, -40 to 85 degC, 28-pin SOP (DB28), Green (RoHS & no Sb/Br); Manufacturer: Texas Instruments; PartNumber: ADS805EG4; # Input Channels: 1; Analog Voltage AV/DD(Max)(V): 5.25; Analog Voltage AV/DD(Min)(V): 4.75; Architecture: Pipeline; ENOB(Bits): 10.7; INL(Max)(+/-LSB): 2; Interface: Parallel CMOS; Resolution(Bits): 12; Sample Rate (max)(SPS): 20M; SFDR(dB): 74; SINAD(dB): 66; SNR(dB): 68; SubFamily: High Speed ADC (>10M); DatasheetVersion: SBAS073B; PackageVersion: 4040065/E, 12/2001; PackageReference: DB28; PackageDescription: 28-Pin Plastic Small Outline, Body 10.2 X 5.3 mm, Pitch 0.65 mm; Supplier 1: Digi-Key; Supplier Part Number 1: 296-12746-5-ND; Supplier 2: Mouser; Supplier Part Number 2: 595-TLC4545IDGK; Digital Supply(Max)(V): 5.25; Digital Supply(Min)(V): 4.75; Eco-Plan: Green (RoHS & no Sb/Br); Mounting Technology: Surface Mount; Code_JEDEC: MO-150; ComponentLink1Description: Manufacturer URL; ComponentLink1URL: http://www.ti.com/; ComponentLink2Description: Datasheet; ComponentLink2URL: http://www.ti.com/general/docs/lit/getliterature.tsp?genericPartNumber=ADS805&fileType=pdf; ComponentLink3Description: Package Specification; ComponentLink3URL: http://www.ti.com/lit/ml/msso002e/msso002e.pdf
footprint TI-DB28_N (SOP, 28-Leads, Body 10.2x5.3mm, Pitch 0.65mm, IPC Medium Density)
footprint TI-DB28_L (SOP, 28-Leads, Body 10.2x5.3mm, Pitch 0.65mm, IPC High Density)
footprint TI-DB28_M (SOP, 28-Leads, Body 10.2x5.3mm, Pitch 0.65mm, IPC Low Density)
pins: 1 OVR (out) "Over-Range Indicator (See Application Section)", 2 B1 (hiz) "Data Bit 1(D11) (MSB)", 3 B2 (hiz) "Data Bit 2 (D10)", 4 B3 (hiz) "Data Bit 3 (D9)", 5 B4 (hiz) "Data Bit 4 (D8)", 6 B5 (hiz) "Data Bit 5 (D7)", 7 B6 (hiz) "Data Bit 6 (D6)", 8 B7 (hiz) "Data Bit 7 (D5)", 9 B8 (hiz) "Data Bit 8 (D4)", 10 B9 (hiz) "Data Bit 9 (D3)", 11 B10 (hiz) "Data Bit 10 (D2)", 12 B11 (hiz) "Data Bit 11 (D1)", 13 B12 (hiz) "Data Bit 12 (D0) (LSB)", 14 CLK (in) "Convert Clock Input", 15 ~{OE} (in) "Output Enable. H = High Impedance State. L = Low or floating, normal operation (Internal pull-down resistor).", 16 VS+ (power) "+5V Supply", 17 GND (power) "Ground", 18 SEL (in) "Input Range Select (See Application Section)", 19 VREF (in) "Reference Voltage Select (I/O)", 20 REFB (in) "Bottom Reference", 21 CM (out) "Common-Mode Voltage", 22 REFT (in) "Top Reference", 23 ~{IN} (in) "Analog Input (-)", 24 GND (power) "Ground", 25 IN (in) "Analog Input (+)", 26 GND (power) "Ground", 27 VS+ (power) "+5V Supply", 28 VDRV (power) "Output Driver Voltage (See Application Section)"